# Altium schematic symbol library mbed-enablement-platform.SCHLIB: 57 symbols
Pins are listed as number, name and electrical type; pins without a type are passive.

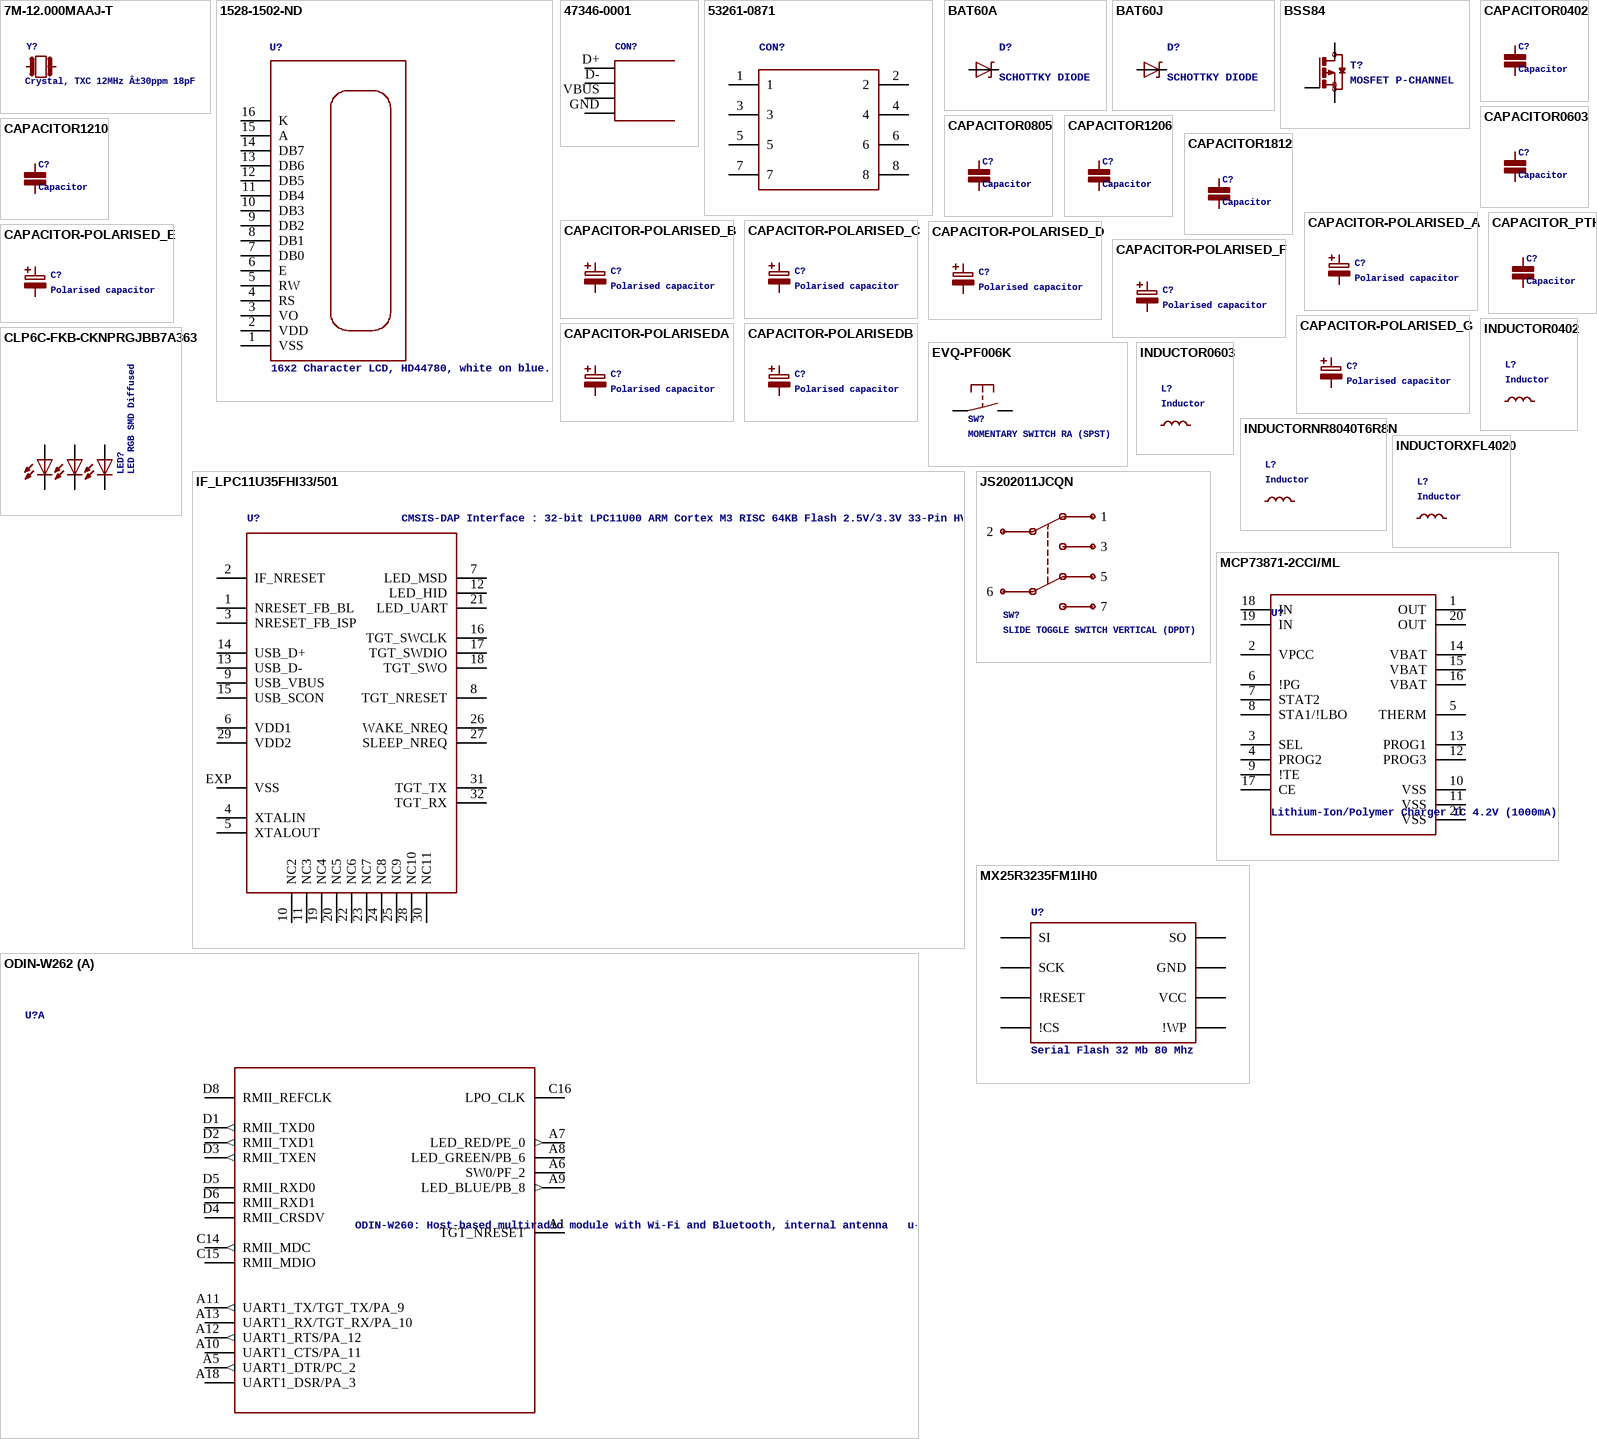
[diagram p0: symbols 7M-12.000MAAJ-T to ODIN-W262]

## 7M-12.000MAAJ-T
designator Y?, comment Crystal, TXC 12MHz Â±30ppm 18pF
MFN: 7M-12.000MAAJ-T; MF: TXC; OC-DIGIKEY: 887-1121-1-ND; OC-MOUSER: 717-7M-12.000MAAJ-T; OC-NEWARK: 84R5706
footprint 3.2X.2.5
pins: P$1 1, P$3 2

## 1528-1502-ND
designator U?, comment 16x2 Character LCD, HD44780, white on blue.
MF: Adafruit Industries LLC; MFN: 181; OC-DIGIKEY: 1528-1502-ND; OC-NEWARK: 53W5770
footprint LCD1602
pins: 1 VSS (power), 2 VDD (oe), 3 VO, 4 RS, 5 RW, 6 E, 7 DB0, 8 DB1, 9 DB2, 10 DB3, 11 DB4, 12 DB5, 13 DB6, 14 DB7, 15 A, 16 K

## 47346-0001
designator CON?, comment USB Receptacle Horizontal Micro Type B  (value not drawn)
MF: MOLEX; MFN: 47346-0001; OC-DIGIKEY: WM17141CT-ND; OC-MOUSER: 538-47346-0001; OC-NEWARK: 1568026
footprint USB-MICRO-B-H
pins: D+, D-, GND, VBUS

## 53261-0871
designator CON?, comment 8 Position Header 1.25mm Pico Blade  (value not drawn)
MF: Molex; MFN: 53261-0871; OC-DIGIKEY: WM7626DKR-ND; OC-MOUSER: 538-53261-0871; OC-NEWARK: 93K4248
footprint 53261-0871
pins: 1, 2, 3, 4, 5, 6, 7, 8

## BAT60A
designator D?, comment SCHOTTKY DIODE
MF: Infineon; MFN: BAT60AE6327HTSA1; OC-DIGIKEY: BAT60AE6327HTSA1CT-ND; OC-MOUSER: 726-BAT60AE6327; OC-NEWARK: 85X4127
footprint SOD323
pins: A, K

## BAT60J
designator D?, comment SCHOTTKY DIODE
MF: STMicroelectronics; MFN: BAT60JFILM; OC-DIGIKEY: 497-3707-6-ND; OC-MOUSER: 511-BAT60JFILM; OC-NEWARK: 89K1218
footprint SOD323
pins: A, K

## BSS84
designator T?, comment MOSFET P-CHANNEL
MF: Fairchild Semiconductor; MFN: BSS84; OC-DIGIKEY: BSS84CT-ND; OC-MOUSER: 512-BSS84; OC-NEWARK: 58K8770
footprint SOT23-3
pins: 1 G, 2 S, 3 D

## CAPACITOR0402
designator C?, comment Capacitor
footprint 0402
pins: 1 P$1, 2 P$2

## CAPACITOR0603
designator C?, comment Capacitor
footprint 0603
pins: 1 P$1, 2 P$2

## CAPACITOR0805
designator C?, comment Capacitor
footprint 0805
pins: 1 P$1, 2 P$2

## CAPACITOR1206
designator C?, comment Capacitor
footprint C1206
pins: 1 P$1, 2 P$2

## CAPACITOR1210
designator C?, comment Capacitor
footprint C1210
pins: 1 P$1, 2 P$2

## CAPACITOR1812
designator C?, comment Capacitor
footprint C1812
pins: 1 P$1, 2 P$2

## CAPACITOR-POLARISED_A
designator C?, comment Polarised capacitor
footprint PANASONIC_A
pins: +, -

## CAPACITOR-POLARISED_B
designator C?, comment Polarised capacitor
footprint PANASONIC_B
pins: +, -

## CAPACITOR-POLARISED_C
designator C?, comment Polarised capacitor
footprint PANASONIC_C
pins: +, -

## CAPACITOR-POLARISED_D
designator C?, comment Polarised capacitor
footprint PANASONIC_D
pins: +, -

## CAPACITOR-POLARISED_E
designator C?, comment Polarised capacitor
footprint PANASONIC_E
pins: +, -

## CAPACITOR-POLARISED_F
designator C?, comment Polarised capacitor
footprint PANASONIC_F
pins: +, -

## CAPACITOR-POLARISED_G
designator C?, comment Polarised capacitor
footprint PANASONIC_G
pins: +, -

## CAPACITOR-POLARISEDA
designator C?, comment Polarised capacitor
footprint SMC_A
pins: +, -

## CAPACITOR-POLARISEDB
designator C?, comment Polarised capacitor
MF: Kemet; MFN: T491B106K020AT; OC-DIGIKEY: 399-8298-1-ND; OC-MOUSER: 80-T491B106K020; OC-NEWARK: 57K1740
footprint SMC_B
pins: +, -

## CAPACITOR_PTH
designator C?, comment Capacitor
footprint CAP-PTH-SMALL
pins: 1 P$1, 2 P$2

## CLP6C-FKB-CKNPRGJBB7A363
designator LED?, comment LED RGB SMD Diffused
MF: Cree Inc.; MFN: CLP6C-FKB-CKNPRGJBB7A363; OC-DIGIKEY: CLP6C-FKB-CKNPRGJBB7A363CT-ND; OC-MOUSER: 941-P6CFKBCKNPRGJ7A3; OC-NEWARK: 11X6459
footprint 6-PLCC
pins: 1, 2, 3, 4, 5, 6

## EVQ-PF006K
designator SW?, comment MOMENTARY SWITCH RA (SPST)
EVQ-PF006K; MF: Panasonic; MFN: EVQ-PF006K
footprint EVQ-PF006K
pins: 1, 2

## IF_LPC11U35FHI33/501
designator U?, comment CMSIS-DAP Interface : 32-bit LPC11U00 ARM Cortex M3 RISC 64KB Flash 2.5V/3.3V 33-Pin HVQFN EP
MF: NXP; MFN: LPC11U35FHI33/501; OC-DIGIKEY: 568-9586-ND; OC-MOUSER: 771-LPC11U35FHI33501; OC-NEWARK: 2115658
footprint HVQFN33
pins: 1 NRESET_FB_BL, 2 IF_NRESET, 3 NRESET_FB_ISP, 4 XTALIN, 5 XTALOUT, 6 VDD1, 7 LED_MSD, 8 TGT_NRESET, 9 USB_VBUS, 10 NC2, 11 NC3, 12 LED_HID, 13 USB_D-, 14 USB_D+, 15 USB_SCON, 16 TGT_SWCLK, 17 TGT_SWDIO, 18 TGT_SWO, 19 NC4, 20 NC5, 21 LED_UART, 22 NC6, 23 NC7, 24 NC8, 25 NC9, 26 WAKE_NREQ, 27 SLEEP_NREQ, 28 NC10, 29 VDD2, 30 NC11, 31 TGT_TX, 32 TGT_RX, EXP VSS

## INDUCTOR0402
designator L?, comment Inductor
footprint 0402
pins: 1 P$1, 2 P$2

## INDUCTOR0603
designator L?, comment Inductor
footprint 0603
pins: 1 P$1, 2 P$2

## INDUCTORNR8040T6R8N
designator L?, comment Inductor
MF: Taiyo Yuden; MFN: NR8040T6R8N; OC-DIGIKEY: 587-2000-1-ND; OC-MOUSER: 963-NR8040T6R8N
footprint NR8040T6R8N
pins: P$1, P$2

## INDUCTORXFL4020
designator L?, comment Inductor
MF: CoilCraft; MFN: XFL4020-472MEC; OC-NEWARK: 2289218
footprint XFL4020-472MEC
pins: P$1, P$2

## JS202011JCQN
designator SW?, comment SLIDE TOGGLE SWITCH VERTICAL (DPDT)
MF: C&K Components; MFN: JS202011JCQN; OC-DIGIKEY: CKN10723CT-ND; OC-MOUSER: 611-JS202011JCQN
footprint JS202011JCQN
pins: 1, 2, 3, 5, 6, 7

## MCP73871-2CCI/ML
designator U?, comment Lithium-Ion/Polymer Charger IC 4.2V (1000mA)
MF: Microchip; MFN: MCP73871-2CCI/ML; OC-DIGIKEY: MCP73871-2CCI/ML-ND; OC-MOUSER: 579-MCP73871-2CCI/ML; OC-NEWARK: 1642489
footprint QFN-20
pins: 1 OUT, 2 VPCC, 3 SEL, 4 PROG2, 5 THERM, 6 !PG, 7 STAT2, 8 STA1/!LBO, 9 !TE, 10 VSS, 11 VSS, 12 PROG3, 13 PROG1, 14 VBAT, 15 VBAT, 16 VBAT, 17 CE, 18 IN, 19 IN, 20 OUT, 21 VSS

## MX25R3235FM1IH0
designator U?, comment Serial Flash 32 Mb 80 Mhz
MF: Macronix; MFN: MX25R3235FM1IH0; OC-DIGIKEY: 1092-1175-ND
footprint SO8
pins: 1 !CS, 2 SO, 3 !WP, 4 GND, 5 SI, 6 SCK, 7 !RESET, 8 VCC

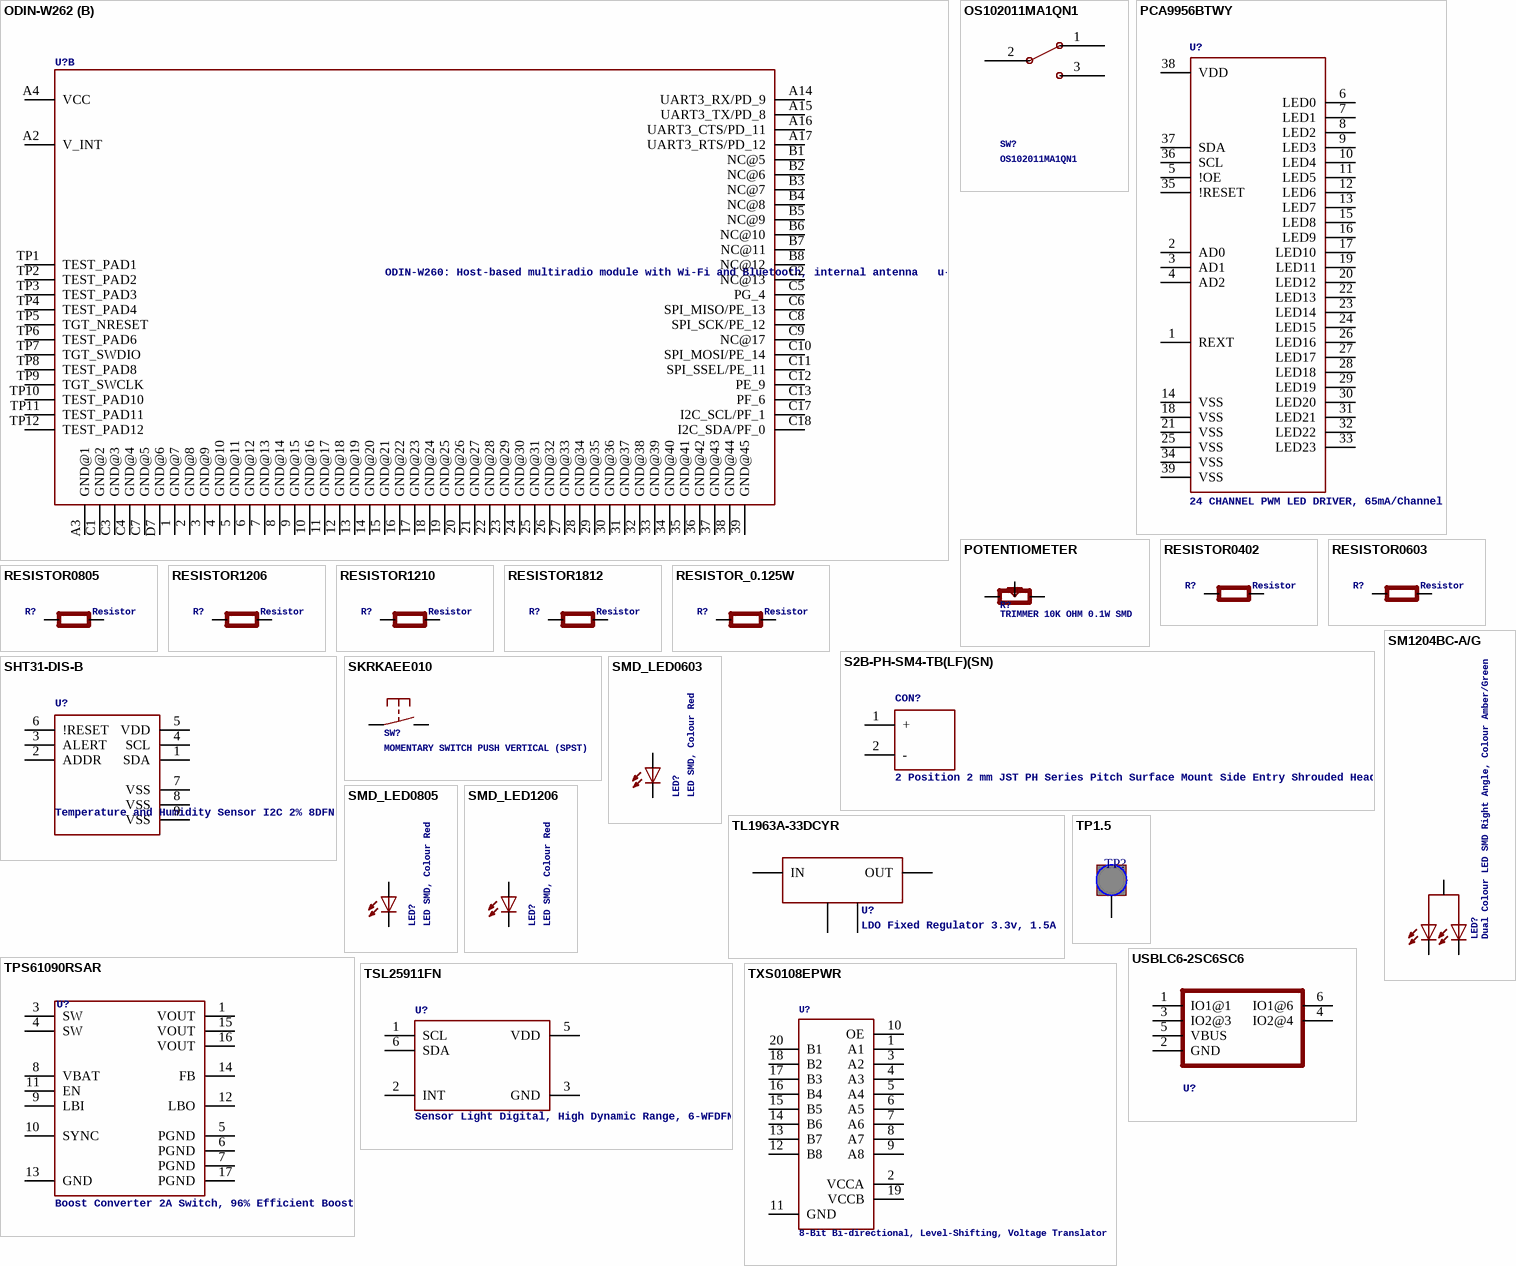
[diagram p1: symbols ODIN-W262 to USBLC6-2SC6SC6]

## ODIN-W262
designator U?, comment ODIN-W260: Host-based multiradio module with Wi-Fi and Bluetooth, internal antenna   u-blox.com
footprint ODIN-88
part A pins: A1 TGT_NRESET, A5 UART1_DTR/PC_2 (out), A6 SW0/PF_2, A7 LED_RED/PE_0 (out), A8 LED_GREEN/PB_6, A9 LED_BLUE/PB_8 (out), A10 UART1_CTS/PA_11, A11 UART1_TX/TGT_TX/PA_9 (out), A12 UART1_RTS/PA_12 (out), A13 UART1_RX/TGT_RX/PA_10, A18 UART1_DSR/PA_3, C14 RMII_MDC (out), C15 RMII_MDIO, C16 LPO_CLK, D1 RMII_TXD0 (out), D2 RMII_TXD1 (out), D3 RMII_TXEN (out), D4 RMII_CRSDV, D5 RMII_RXD0, D6 RMII_RXD1, D8 RMII_REFCLK
part B pins: 1 GND@7 (power), 2 GND@8 (power), 3 GND@9 (power), 4 GND@10 (power), 5 GND@11 (power), 6 GND@12 (power), 7 GND@13 (power), 8 GND@14 (power), 9 GND@15 (power), 10 GND@16 (power), 11 GND@17 (power), 12 GND@18 (power), 13 GND@19 (power), 14 GND@20 (power), 15 GND@21 (power), 16 GND@22 (power), 17 GND@23 (power), 18 GND@24 (power), 19 GND@25 (power), 20 GND@26 (power), 21 GND@27 (power), 22 GND@28 (power), 23 GND@29 (power), 24 GND@30 (power), 25 GND@31 (power), 26 GND@32 (power), 27 GND@33 (power), 28 GND@34 (power), 29 GND@35 (power), 30 GND@36 (power), 31 GND@37 (power), 32 GND@38 (power), 33 GND@39 (power), 34 GND@40 (power), 35 GND@41 (power), 36 GND@42 (power), 37 GND@43 (power), 38 GND@44 (power), 39 GND@45 (power), A2 V_INT (power), A3 GND@1 (power), A4 VCC (power), A14 UART3_RX/PD_9, A15 UART3_TX/PD_8, A16 UART3_CTS/PD_11, A17 UART3_RTS/PD_12, B1 NC@5, B2 NC@6, B3 NC@7, B4 NC@8, B5 NC@9, B6 NC@10, B7 NC@11, B8 NC@12, C1 GND@2 (power), C2 NC@13, C3 GND@3 (power), C4 GND@4 (power), C5 PG_4, C6 SPI_MISO/PE_13, C7 GND@5 (power), C8 SPI_SCK/PE_12, C9 NC@17, C10 SPI_MOSI/PE_14, C11 SPI_SSEL/PE_11, C12 PE_9, C13 PF_6, C17 I2C_SCL/PF_1, C18 I2C_SDA/PF_0, D7 GND@6 (power), TP1 TEST_PAD1, TP2 TEST_PAD2, TP3 TEST_PAD3, TP4 TEST_PAD4, TP5 TGT_NRESET, TP6 TEST_PAD6, TP7 TGT_SWDIO, TP8 TEST_PAD8, TP9 TGT_SWCLK, TP10 TEST_PAD10, TP11 TEST_PAD11, TP12 TEST_PAD12

## OS102011MA1QN1
designator SW?
SWITCH SLIDE SPDT 100MA 12V; MF: C&K Components; MFN: OS102011MA1QN1
footprint OS102011MA1QN1
pins: 1, 2, 3

## PCA9956BTWY
designator U?, comment 24 CHANNEL PWM LED DRIVER, 65mA/Channel
MF: NXP USA Inc.; MFN: PCA9956BTWY; OC-DIGIKEY: 568-12502-1-ND; OC-MOUSER: 771-PCA9956BTWY; OC-NEWARK: 2759860
footprint HTSSOP38
pins: 1 REXT, 2 AD0, 3 AD1, 4 AD2, 5 !OE, 6 LED0, 7 LED1, 8 LED2, 9 LED3, 10 LED4, 11 LED5, 12 LED6, 13 LED7, 14 VSS, 15 LED8, 16 LED9, 17 LED10, 18 VSS, 19 LED11, 20 LED12, 21 VSS, 22 LED13, 23 LED14, 24 LED15, 25 VSS, 26 LED16, 27 LED17, 28 LED18, 29 LED19, 30 LED20, 31 LED21, 32 LED22, 33 LED23, 34 VSS, 35 !RESET, 36 SCL, 37 SDA, 38 VDD, 39 VSS

## POTENTIOMETER
designator R?, comment TRIMMER 10K OHM 0.1W SMD
MF: Bourns Inc.; MFN: TC33X-2-103E; OC-DIGIKEY: TC33X-103ECT-ND; OC-MOUSER: 652-TC33X-2-103E; OC-NEWARK: 97M3836
footprint TC33X-2-103E
pins: 1 P$1, 2 P$2, 3 P$3

## RESISTOR0402
designator R?, comment Resistor
footprint 0402
pins: 1 P$1, 2 P$2

## RESISTOR0603
designator R?, comment Resistor
footprint 0603
pins: 1 P$1, 2 P$2

## RESISTOR0805
designator R?, comment Resistor
footprint 0805
pins: 1 P$1, 2 P$2

## RESISTOR1206
designator R?, comment Resistor
footprint C1206
pins: 1 P$1, 2 P$2

## RESISTOR1210
designator R?, comment Resistor
footprint C1210
pins: 1 P$1, 2 P$2

## RESISTOR1812
designator R?, comment Resistor
footprint C1812
pins: 1 P$1, 2 P$2

## RESISTOR_0.125W
designator R?, comment Resistor
footprint 0.125W
pins: P$1, P$2

## S2B-PH-SM4-TB(LF)(SN)
designator CON?, comment 2 Position 2 mm JST PH Series Pitch Surface Mount Side Entry Shrouded Header
MFN: S2B-PH-SM4-TB(LF)(SN); MF: JST; OC-DIGIKEY: 455-1749-1-ND; OC-NEWARK: 38K8067
footprint S2B-PH-SM4-TB(LF)(SN)
pins: 1 +, 2 -

## SHT31-DIS-B
designator U?, comment Temperature and Humidity Sensor I2C 2% 8DFN
MF: Sensirion; MFN: SHT31-DIS-B; OC-DIGIKEY: 1649-1011-1-ND; OC-MOUSER: 403-SHT31-DIS-B; OC-NEWARK: 2474218
footprint 8-DFN
pins: 1 SDA, 2 ADDR, 3 ALERT, 4 SCL, 5 VDD, 6 !RESET, 7 VSS, 8 VSS, 9 VSS

## SKRKAEE010
designator SW?, comment MOMENTARY SWITCH PUSH VERTICAL (SPST)
MF: ALPS; MFN: SKRKAEE010; OC-MOUSER: 688-SKRKAE
footprint SKRKAEE010
pins: P$1 P, P$2 S

## SM1204BC-A/G
designator LED?, comment Dual Colour LED SMD Right Angle, Colour Amber/Green
MF: Bivar; MFN: SM1204BC-A/G; OC-DIGIKEY: 492-1229-2-ND; OC-MOUSER: 749-SM1204BC-A/G; OC-NEWARK: 1814269
footprint CHIPLED_1204
pins: P$1 1, P$2 2, P$3 3

## SMD_LED0603
designator LED?, comment LED SMD, Colour Red
MF: Wurth Electronics Inc; MFN: 150060RS75000; OC-DIGIKEY: 732-4978-1-ND; OC-MOUSER: 710-150060RS75000; OC-NEWARK: 2322071
footprint CHIPLED_0603
pins: A, C

## SMD_LED0805
designator LED?, comment LED SMD, Colour Red
MF: Wurth Electronics Inc; MFN: 150080RS75000; OC-DIGIKEY: 732-4984-1-ND; OC-MOUSER: 710-150080RS75000; OC-NEWARK: 2322077
footprint CHIPLED_0805
pins: A, C

## SMD_LED1206
designator LED?, comment LED SMD, Colour Red
MF: Wurth Electronics Inc; MFN: 150120GS75000; OC-DIGIKEY: 732-4990-1-ND; OC-MOUSER: 710-150120GS75000; OC-NEWARK: 2322085
footprint CHIPLED_1206
pins: A, C

## TL1963A-33DCYR
designator U?, comment LDO Fixed Regulator 3.3v, 1.5A
MF: Texas Instruments; MFN: TL1963A-33DCYR; OC-DIGIKEY: 296-24897-1-ND; OC-MOUSER: 595-TL1963A-33DCYR; OC-NEWARK: 94T5083
footprint SOT223
pins: 1 IN, 2 GND, 3 OUT, 4 GND

## TP1.5
designator TP?, comment TP, 1.5mm  (value not drawn)
1.5mm round test point
footprint TP1.5 (Test Point, 1.5mm)
pins: 1

## TPS61090RSAR
designator U?, comment Boost Converter 2A Switch, 96% Efficient Boost
MF: Texas Instruments; MFN: TPS61090RSAR; OC-DIGIKEY: 296-15259-1-ND; OC-MOUSER: 595-TPS61090RSAR; OC-NEWARK: 73H4652
footprint QFN-16
pins: 1 VOUT, 3 SW, 4 SW, 5 PGND, 6 PGND, 7 PGND, 8 VBAT, 9 LBI, 10 SYNC, 11 EN, 12 LBO, 13 GND, 14 FB, 15 VOUT, 16 VOUT, 17 PGND

## TSL25911FN
designator U?, comment Sensor Light Digital, High Dynamic Range, 6-WFDFN
MF: ams; MFN: TSL25911FN; OC-DIGIKEY: TSL25911FNCT-ND; OC-MOUSER: 985-TSL25911FN; OC-NEWARK: 09X0688
footprint 6-WFDFN
pins: 1 SCL, 2 INT, 3 GND, 5 VDD, 6 SDA

## TXS0108EPWR
designator U?, comment 8-Bit Bi-directional, Level-Shifting, Voltage Translator
MF: Texas Instruments; MFN: TXS0108EPWR; OC-DIGIKEY: 296-23011-1-ND; OC-MOUSER: 595-TXS0108EPWR; OC-NEWARK: 05R8300
footprint TSSOP-20
pins: 1 A1, 2 VCCA, 3 A2, 4 A3, 5 A4, 6 A5, 7 A6, 8 A7, 9 A8, 10 OE, 11 GND, 12 B8, 13 B7, 14 B6, 15 B5, 16 B4, 17 B3, 18 B2, 19 VCCB, 20 B1

## USBLC6-2SC6SC6
designator U?, comment ESD USB Protection Bi-Directional  (value not drawn)
MF: STMicroelectronics; MFN: USBLC6-2SC6; OC-DIGIKEY: 497-5235-1-ND; OC-MOUSER: 511-USBLC6-2SC6; OC-NEWARK: 26M4748
footprint SOT23-6L
pins: 1 IO1@1, 2 GND, 3 IO2@3, 4 IO2@4, 5 VBUS, 6 IO1@6